# Altium footprint library 47219-2001.PcbLib: 1 footprints
Each footprint in its own frame and in the unit in brackets; x right, y up, seen from the top. Pads: shape width x height; smd on the part's side, far side on the other; paste and mask are expansions set on the pad; w line width, h text height; cw(c..) or ccw(c..) is an arc to the next point about the centre after c.
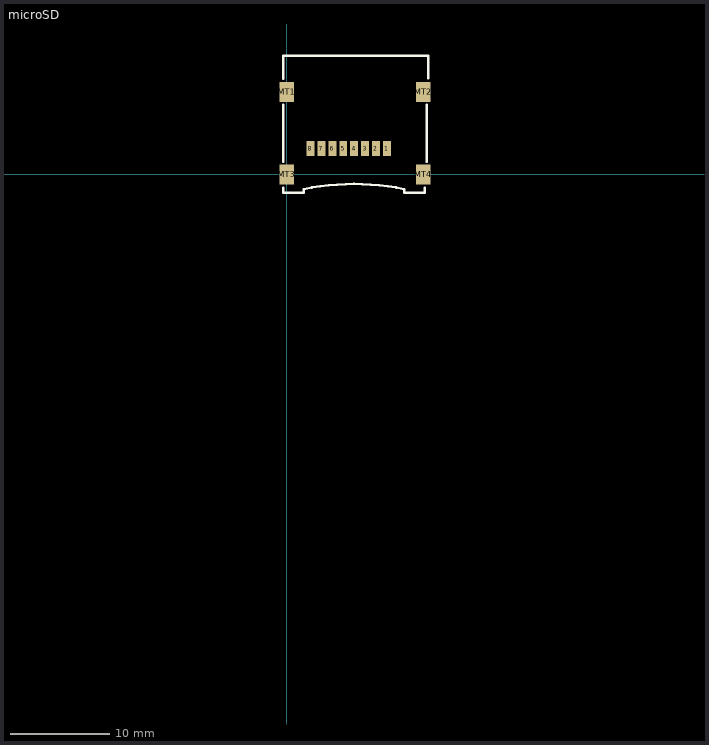
[diagram p0: the footprint, top view; thin cyan lines are the x and y axes]

## microSD [mm]
pads (12):
  rect 0.8x1.5 smd: 1(10.08,2.6) 2(8.98,2.6) 3(7.88,2.6) 4(6.78,2.6) 5(5.68,2.6) 6(4.58,2.6) 7(3.48,2.6) 8(2.38,2.6)
  rect 1.45x2 smd: MT1(0,8.3) MT2(13.75,8.3) MT3(0,0) MT4(13.75,0)
Top Overlay:
  lines w0.254: -0.381,1.27 -0.381,6.985 ; -0.347,-1.352 -0.347,-1.86 1.685,-1.86 1.685,-1.479 cw(c6.765,-26.561) 11.845,-1.479 11.845,-1.86 13.877,-1.86 13.877,-1.352 ; -0.347,9.652 -0.347,11.938 14.224,11.938 14.224,9.697 ; 14.097,1.27 14.097,6.985
3D body "microSD - 472192001.stp": height 1.82, standoff -0.08, extent -0.442,-2.643 14.158,11.857